# EAGLE library part LM358DT (library LM358DT)
LM358 Series 30 V 1.1 MHz Low Power Dual Operational Amplifier - SOIC-8
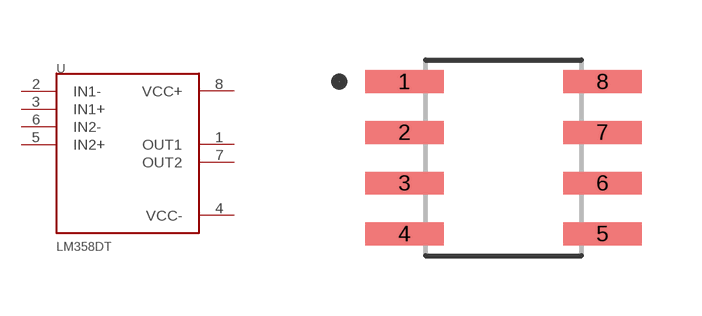
[diagram p0: symbol with the pads of SOIC127P600X175-8N; footprint SOIC127P600X175-8N]

Designator prefix U

## LM358DT (Description: LM358 Series 30 V 1.1 MHz Low Power Dual Operational Amplifier - SOIC-8; Digi-Key_Part_Number: 497-1591-1-ND; Digi-Key_Purchase_URL: https://www.digikey.ca/product-detail/en/stmicroelectronics/LM358DT/497-1591-1-ND/592083?utm_source=snapeda&utm_medium=aggregator&utm_campaign=symbol; MF: STMicroelectronics; MP: LM358DT; Package: SOIC-8 STMicroelectronics)  [SOIC127P600X175-8N]
1  OUT1  out
2  IN1-  in
3  IN1+  in
4  VCC-  pwr
5  IN2+  in
6  IN2-  in
7  OUT2  out
8  VCC+  pwr

## Footprint SOIC127P600X175-8N (pad centres in mm)
smd 1.97 x 0.57: 1 -2.475,1.905; 2 -2.475,0.635; 3 -2.475,-0.635; 4 -2.475,-1.905; 5 2.475,-1.905; 6 2.475,-0.635; 7 2.475,0.635; 8 2.475,1.905